# Altium footprint library AstroPix.PcbLib: 13 footprints
Each footprint in its own frame and in the unit in brackets; x right, y up, seen from the top. Pads: shape width x height; smd on the part's side, far side on the other; paste and mask are expansions set on the pad; w line width, h text height; cw(c..) or ccw(c..) is an arc to the next point about the centre after c.
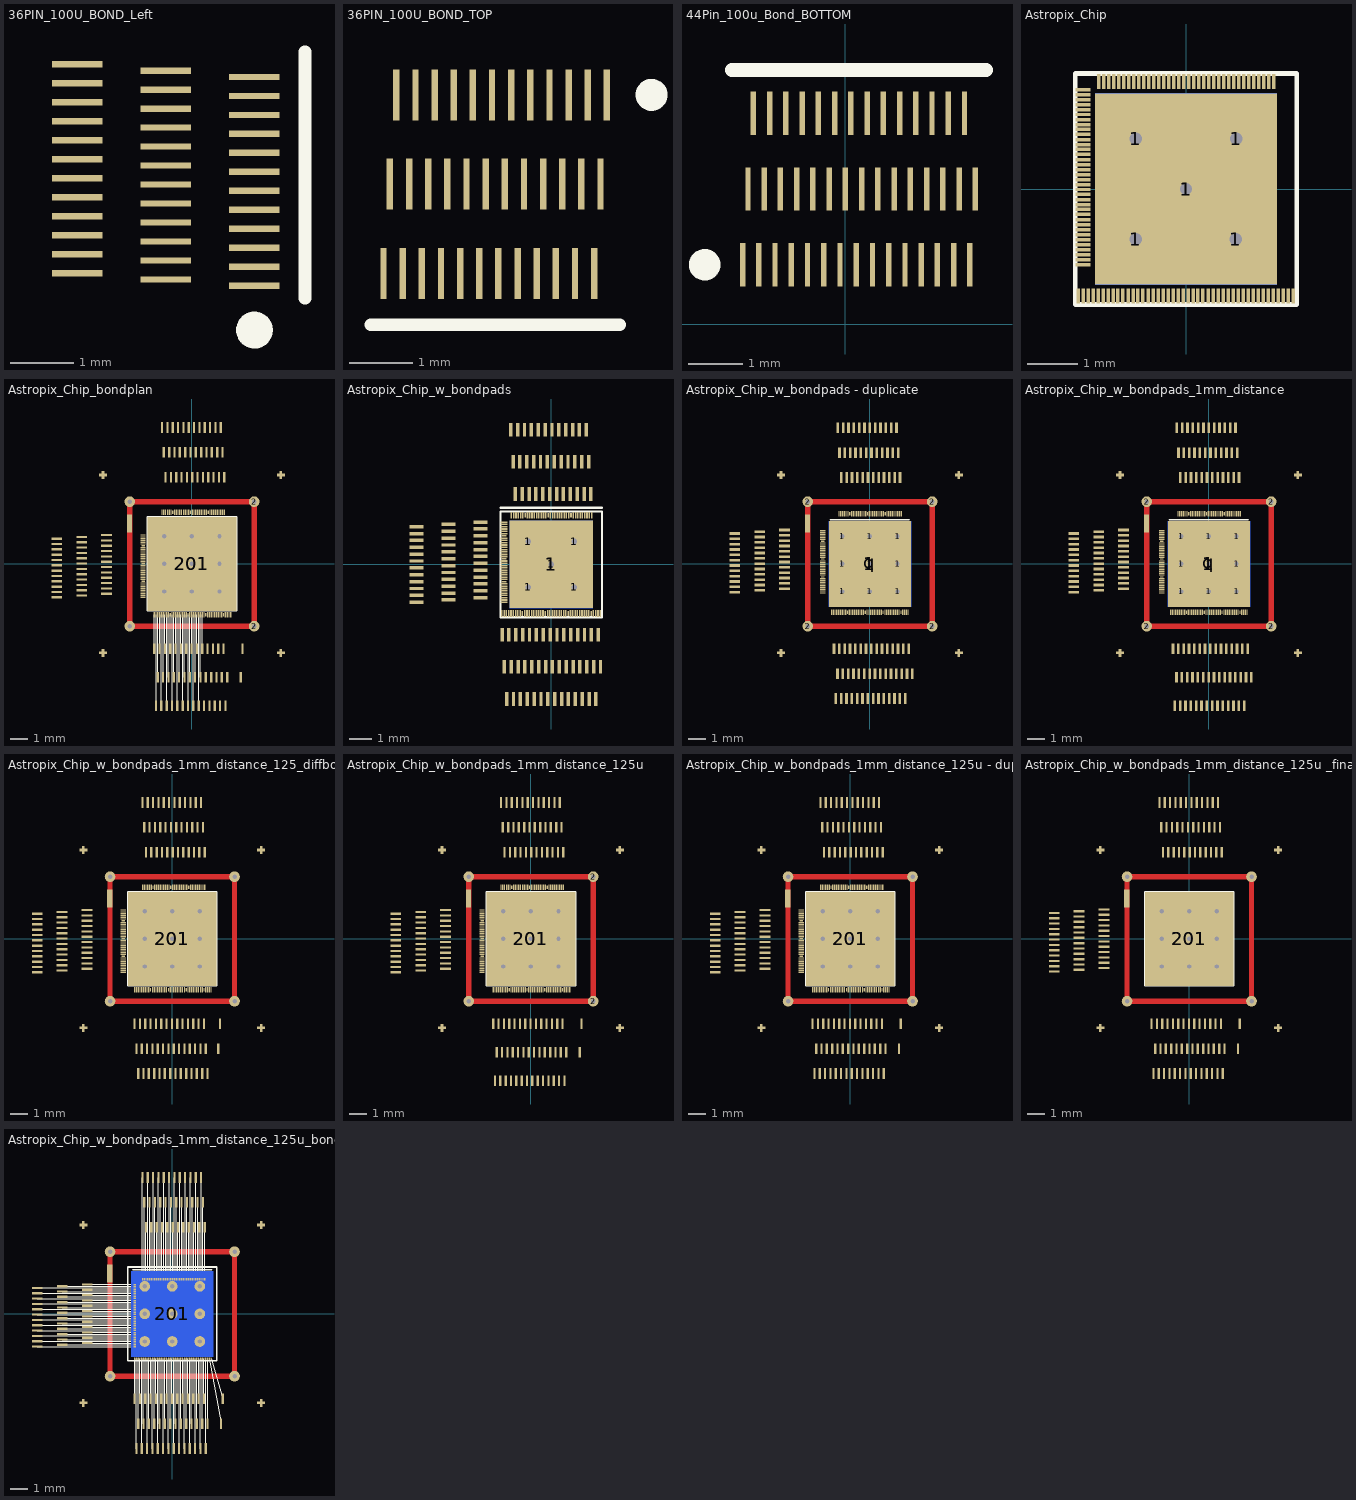
[diagram p0: the footprints below, top view; thin cyan lines are the x and y axes]

## 36PIN_100U_BOND_Left [mm]
pads (36):
  rect 0.8x0.1 smd: 1(-353.5,-207.6) 2(-354.9,-207.5) 3(-356.3,-207.4) 4(-353.5,-207.3) 5(-354.9,-207.2) 6(-356.3,-207.1) 7(-353.5,-207) 8(-354.9,-206.9) 9(-356.3,-206.8) 10(-353.5,-206.7) 11(-354.9,-206.6) 12(-356.3,-206.5) 13(-353.5,-206.4) 14(-354.9,-206.3) 15(-356.3,-206.2) 16(-353.5,-206.1) 17(-354.9,-206) 18(-356.3,-205.9) 19(-353.5,-205.8) 20(-354.9,-205.7) 21(-356.3,-205.6) 22(-353.5,-205.5) 23(-354.9,-205.4) 24(-356.3,-205.3) 25(-353.5,-205.2) 26(-354.9,-205.1) 27(-356.3,-205) 28(-353.5,-204.9) 29(-354.9,-204.8) 30(-356.3,-204.7) 31(-353.5,-204.6) 32(-354.9,-204.5) 33(-356.3,-204.4) 34(-353.5,-204.3) 35(-354.9,-204.2) 36(-356.3,-204.1)
Top Overlay:
  circle w0.3: c-353.5,-208.3 r0.141
  lines w0.2: -352.7,-207.8 -352.7,-203.9
Top Solder:
  rectangle: -357,-207.9 -352.8,-203.8

## 36PIN_100U_BOND_TOP [mm]
pads (36):
  rect 0.1x0.8 smd: 1(-354.5,-207) 2(-354.6,-208.4) 3(-354.7,-209.8) 4(-354.8,-207) 5(-354.9,-208.4) 6(-355,-209.8) 7(-355.1,-207) 8(-355.2,-208.4) 9(-355.3,-209.8) 10(-355.4,-207) 11(-355.5,-208.4) 12(-355.6,-209.8) 13(-355.7,-207) 14(-355.8,-208.4) 15(-355.9,-209.8) 16(-356,-207) 17(-356.1,-208.4) 18(-356.2,-209.8) 19(-356.3,-207) 20(-356.4,-208.4) 21(-356.5,-209.8) 22(-356.6,-207) 23(-356.7,-208.4) 24(-356.8,-209.8) 25(-356.9,-207) 26(-357,-208.4) 27(-357.1,-209.8) 28(-357.2,-207) 29(-357.3,-208.4) 30(-357.4,-209.8) 31(-357.5,-207) 32(-357.6,-208.4) 33(-357.7,-209.8) 34(-357.8,-207) 35(-357.9,-208.4) 36(-358,-209.8)
Top Overlay:
  circle w0.3: c-353.8,-207 r0.1
  lines w0.2: -358.2,-210.6 -354.3,-210.6
Top Solder:
  region: -354.2,-210.5 -354.2,-206.3 -358.3,-206.3 -358.3,-210.5

## 44Pin_100u_Bond_BOTTOM [mm]
pads (44):
  rect 0.1x0.8 smd: 1(-1.9,1.1) 2(-1.8,2.5) 3(-1.7,3.9) 4(-1.6,1.1) 5(-1.5,2.5) 6(-1.4,3.9) 7(-1.3,1.1) 8(-1.2,2.5) 9(-1.1,3.9) 10(-1,1.1) 11(-0.9,2.5) 12(-0.8,3.9) 13(-0.7,1.1) 14(-0.6,2.5) 15(-0.5,3.9) 16(-0.4,1.1) 17(-0.3,2.5) 18(-0.2,3.9) 19(-0.1,1.1) 20(0,2.5) 21(0.1,3.9) 22(0.2,1.1) 23(0.3,2.5) 24(0.4,3.9) 25(0.5,1.1) 26(0.6,2.5) 27(0.7,3.9) 28(0.8,1.1) 29(0.9,2.5) 30(1,3.9) 31(1.1,1.1) 32(1.2,2.5) 33(1.3,3.9) 34(1.4,1.1) 35(1.5,2.5) 36(1.6,3.9) 37(1.7,1.1) 38(1.8,2.5) 39(1.9,3.9) 40(2,1.1) 41(2.1,2.5) 42(2.2,3.9) 43(2.3,1.1) 44(2.4,2.5)
Top Overlay:
  circle w0.3: c-2.6,1.1 r0.141
  lines w0.254: -2.1,4.7 2.6,4.7
Top Solder:
  region: 2.7,0.4 2.7,4.6 -2.2,4.6 -2.2,0.4

## Astropix_Chip [mm]
pads (123):
  round 0.6 hole 0.25: 1(-1,-1) 1(-1,1) 1(0,0) 1(1,-1) 1(1,1)
  rect 3.63x3.82 smd: 1(0,0)
  rect 3.63x3.82 smd far side: 1(0,0)
  rect 0.07x0.3 smd mask+0.015: NC(-2.16,-2.14) NC(-2.06,-2.14) NC(-1.96,-2.14) NC(-1.86,-2.14) NC(-1.76,-2.14) NC(-1.75,2.15) NC(-1.66,-2.14) NC(-1.65,2.15) NC(-1.56,-2.14) NC(-1.55,2.15) NC(-1.46,-2.14) NC(-1.45,2.15) NC(-1.36,-2.14) NC(-1.35,2.15) NC(-1.26,-2.14) NC(-1.25,2.15) NC(-1.16,-2.14) NC(-1.15,2.15) NC(-1.06,-2.14) NC(-1.05,2.15) NC(-0.96,-2.14) NC(-0.95,2.15) NC(-0.86,-2.14) NC(-0.85,2.15) NC(-0.76,-2.14) NC(-0.75,2.15) NC(-0.66,-2.14) NC(-0.65,2.15) NC(-0.56,-2.14) NC(-0.55,2.15) NC(-0.46,-2.14) NC(-0.45,2.15) NC(-0.36,-2.14) NC(-0.35,2.15) NC(-0.26,-2.14) NC(-0.25,2.15) NC(-0.16,-2.14) NC(-0.15,2.15) NC(-0.06,-2.14) NC(-0.05,2.15) NC(0.04,-2.14) NC(0.05,2.15) NC(0.14,-2.14) NC(0.15,2.15) NC(0.24,-2.14) NC(0.25,2.15) NC(0.34,-2.14) NC(0.35,2.15) NC(0.44,-2.14) NC(0.45,2.15) NC(0.54,-2.14) NC(0.55,2.15) NC(0.64,-2.14) NC(0.65,2.15) NC(0.74,-2.14) NC(0.75,2.15) NC(0.84,-2.14) NC(0.85,2.15) NC(0.94,-2.14) NC(0.95,2.15) NC(1.04,-2.14) NC(1.05,2.15) NC(1.14,-2.14) NC(1.15,2.15) NC(1.24,-2.14) NC(1.25,2.15) NC(1.34,-2.14) NC(1.35,2.15) NC(1.44,-2.14) NC(1.45,2.15) NC(1.54,-2.14) NC(1.55,2.15) NC(1.64,-2.14) NC(1.65,2.15) NC(1.74,-2.14) NC(1.75,2.15) NC(1.84,-2.14) NC(1.94,-2.14) NC(2.04,-2.14) NC(2.14,-2.14)
  rect 0.3x0.07 smd mask+0.015: NC(-2.06,-1.51) NC(-2.06,-1.41) NC(-2.06,-1.31) NC(-2.06,-1.21) NC(-2.06,-1.11) NC(-2.06,-1.01) NC(-2.06,-0.91) NC(-2.06,-0.81) NC(-2.06,-0.71) NC(-2.06,-0.61) NC(-2.06,-0.51) NC(-2.06,-0.41) NC(-2.06,-0.31) NC(-2.06,-0.21) NC(-2.06,-0.11) NC(-2.06,-0.01) NC(-2.06,0.09) NC(-2.06,0.19) NC(-2.06,0.29) NC(-2.06,0.39) NC(-2.06,0.49) NC(-2.06,0.59) NC(-2.06,0.69) NC(-2.06,0.79) NC(-2.06,0.89) NC(-2.06,0.99) NC(-2.06,1.09) NC(-2.06,1.19) NC(-2.06,1.29) NC(-2.06,1.39) NC(-2.06,1.49) NC(-2.06,1.59) NC(-2.06,1.69) NC(-2.06,1.79) NC(-2.06,1.89) NC(-2.06,1.99)
Top Overlay:
  lines w0.1: -2.215,-2.31 -2.215,2.31 2.215,2.31 2.215,-2.31 -2.215,-2.31
Top Solder:
  rectangle: -3,-3 3,3

## Astropix_Chip_bondplan [mm]
pads (256):
  rect 0.125x0.6 smd mask+0.075: 1(-2.12,-4.77) 2(-2.02,-7.97) 3(-1.92,-6.37) 4(-1.82,-4.77) 5(-1.72,-7.97) 6(-1.62,-6.37) 7(-1.52,-4.77) 8(-1.42,-7.97) 9(-1.32,-6.37) 10(-1.22,-4.77) 11(-1.12,-7.97) 12(-1.02,-6.37) 13(-0.92,-4.77) 14(-0.82,-7.97) 15(-0.72,-6.37) 16(-0.62,-4.77) 17(-0.52,-7.97) 18(-0.42,-6.37) 19(-0.32,-4.77) 20(-0.22,-7.97) 21(-0.12,-6.37) 22(-0.02,-4.77) 23(0.08,-7.97) 24(0.18,-6.37) 25(0.28,-4.77) 26(0.38,-7.97) 27(0.48,-6.37) 28(0.58,-4.77) 29(0.68,-7.97) 30(0.78,-6.37) 31(0.88,-4.77) 32(0.98,-7.97) 33(1.08,-6.37) 34(1.18,-4.77) 35(1.28,-7.97) 36(1.38,-6.37) 37(1.48,-4.77) 38(1.58,-7.97) 39(1.68,-6.37) 40(1.78,-4.77) 41(1.88,-7.97) 42(1.98,-6.37) 43(2.84,-4.77) 44(2.74,-6.37) 81(1.82,4.87) 82(1.72,6.27) 83(1.62,7.67) 84(1.52,4.87) 85(1.42,6.27) 86(1.32,7.67) 87(1.22,4.87) 88(1.12,6.27) 89(1.02,7.67) 90(0.92,4.87) 91(0.82,6.27) 92(0.72,7.67) 93(0.62,4.87) 94(0.52,6.27) 95(0.42,7.67) 96(0.32,4.87) 97(0.22,6.27) 98(0.12,7.67) 99(0.02,4.87) 100(-0.08,6.27) 101(-0.18,7.67) 102(-0.28,4.87) 103(-0.38,6.27) 104(-0.48,7.67) 105(-0.58,4.87) 106(-0.68,6.27) 107(-0.78,7.67) 108(-0.88,4.87) 109(-0.98,6.27) 110(-1.08,7.67) 111(-1.18,4.87) 112(-1.28,6.27) 113(-1.38,7.67) 114(-1.48,4.87) 115(-1.58,6.27) 116(-1.68,7.67)
  rect 0.3x1 all layers, no hole mask+0: 2(-3.51,2.27)
  round 0.6 hole 0.25: 2(3.5,-3.5) 2(3.5,3.5) 201(-1.55,-1.55) 201(-1.55,0) 201(-1.55,1.55) 201(0,-1.55) 201(0,0) 201(0,1.55) 201(1.55,-1.55) 201(1.55,0) 201(1.55,1.55) 202(-3.5,-3.5) 202(-3.5,3.5)
  rect 0.6x0.125 smd mask+0.075: 45(-7.6,-1.88) 46(-6.2,-1.78) 47(-4.8,-1.68) 48(-7.6,-1.58) 49(-6.2,-1.48) 50(-4.8,-1.38) 51(-7.6,-1.28) 52(-6.2,-1.18) 53(-4.8,-1.08) 54(-7.6,-0.98) 55(-6.2,-0.88) 56(-4.8,-0.78) 57(-7.6,-0.68) 58(-6.2,-0.58) 59(-4.8,-0.48) 60(-7.6,-0.38) 61(-6.2,-0.28) 62(-4.8,-0.18) 63(-7.6,-0.08) 64(-6.2,0.02) 65(-4.8,0.12) 66(-7.6,0.22) 67(-6.2,0.32) 68(-4.8,0.42) 69(-7.6,0.52) 70(-6.2,0.62) 71(-4.8,0.72) 72(-7.6,0.82) 73(-6.2,0.92) 74(-4.8,1.02) 75(-7.6,1.12) 76(-6.2,1.22) 77(-4.8,1.32) 78(-7.6,1.42) 79(-6.2,1.52) 80(-4.8,1.62)
  rect 5x5.28 smd: 201(0,0)
  rect 4.63x4.82 smd far side: 201(0,0)
  rect 0.3x0.07 smd mask+0.015: NC(-2.75,-1.88) NC(-2.75,-1.78) NC(-2.75,-1.68) NC(-2.75,-1.58) NC(-2.75,-1.48) NC(-2.75,-1.38) NC(-2.75,-1.28) NC(-2.75,-1.18) NC(-2.75,-1.08) NC(-2.75,-0.88) NC(-2.75,-0.78) NC(-2.75,-0.68) NC(-2.75,-0.58) NC(-2.75,-0.48) NC(-2.75,-0.38) NC(-2.75,-0.28) NC(-2.75,-0.18) NC(-2.75,-0.08) NC(-2.75,0.12) NC(-2.75,0.22) NC(-2.75,0.32) NC(-2.75,0.42) NC(-2.75,0.52) NC(-2.75,0.62) NC(-2.75,0.72) NC(-2.75,0.82) NC(-2.75,0.92) NC(-2.75,1.12) NC(-2.75,1.22) NC(-2.75,1.32) NC(-2.75,1.42) NC(-2.75,1.52) NC(-2.75,1.62)
  rect 0.2x0.07 smd mask+0.015: NC(-2.75,-0.98) NC(-2.75,0.02) NC(-2.75,1.02)
  rect 0.07x0.3 smd mask+0.015: NC(-2.12,-2.86) NC(-2.02,-2.86) NC(-1.92,-2.86) NC(-1.82,-2.86) NC(-1.72,-2.86) NC(-1.68,2.9) NC(-1.62,-2.86) NC(-1.58,2.9) NC(-1.52,-2.86) NC(-1.48,2.9) NC(-1.42,-2.86) NC(-1.38,2.9) NC(-1.32,-2.86) NC(-1.28,2.9) NC(-1.18,2.9) NC(-1.12,-2.86) NC(-1.02,-2.86) NC(-0.98,2.9) NC(-0.92,-2.86) NC(-0.88,2.9) NC(-0.82,-2.86) NC(-0.78,2.9) NC(-0.72,-2.86) NC(-0.68,2.9) NC(-0.62,-2.86) NC(-0.58,2.9) NC(-0.52,-2.86) NC(-0.48,2.9) NC(-0.42,-2.86) NC(-0.38,2.9) NC(-0.32,-2.86) NC(-0.28,2.9) NC(-0.18,2.9) NC(-0.12,-2.86) NC(-0.02,-2.86) NC(0.02,2.9) NC(0.08,-2.86) NC(0.12,2.9) NC(0.18,-2.86) NC(0.22,2.9) NC(0.28,-2.86) NC(0.32,2.9) NC(0.38,-2.86) NC(0.42,2.9) NC(0.48,-2.86) NC(0.52,2.9) NC(0.58,-2.86) NC(0.62,2.9) NC(0.68,-2.86) NC(0.72,2.9) NC(0.82,2.9) NC(0.88,-2.86) NC(0.98,-2.86) NC(1.02,2.9) NC(1.08,-2.86) NC(1.12,2.9) NC(1.18,-2.86) NC(1.22,2.9) NC(1.28,-2.86) NC(1.32,2.9) NC(1.38,-2.86) NC(1.42,2.9) NC(1.48,-2.86) NC(1.52,2.9) NC(1.58,-2.86) NC(1.62,2.9) NC(1.68,-2.86) NC(1.72,2.9) NC(1.82,2.9) NC(1.88,-2.86) NC(1.98,-2.86) NC(2.08,-2.86) NC(2.18,-2.86)
  rect 0.07x0.2 smd mask+0.015: NC(-1.22,-2.86) NC(-1.08,2.9) NC(-0.22,-2.86) NC(-0.08,2.9) NC(0.78,-2.86) NC(0.92,2.9) NC(1.78,-2.86)
  rect 0.45x0.15 smd: p(-5,-5) p(-5,5) p(5,-5) p(5,5)
  rect 0.15x0.45 smd: p(-5,-5) p(-5,5) p(5,-5) p(5,5)
Top Layer:
  lines w0.3: -3.5,-3.5 3.5,-3.5 3.5,3.5 -3.5,3.5 -3.5,-3.5
Top Overlay:
  lines w0.02: -2.12,-4.54 -2.12,-2.86 ; -2.02,-7.97 -2.02,-2.86 ; -1.92,-6.37 -1.92,-2.86 ; -1.82,-4.77 -1.82,-2.86 ; -1.72,-7.97 -1.72,-2.86 ; -1.62,-6.37 -1.62,-2.86 ; -1.52,-4.77 -1.52,-2.86 ; -1.42,-7.97 -1.42,-2.86 ; -1.32,-6.37 -1.32,-2.86 ; -1.22,-4.77 -1.22,-2.86 ; -1.12,-7.97 -1.12,-2.86 ; -1.02,-6.37 -1.02,-2.86 ; -0.92,-4.77 -0.92,-2.86 ; -0.82,-7.97 -0.82,-2.86 ; -0.72,-6.37 -0.72,-2.86 ; -0.62,-4.77 -0.62,-2.86 ; -0.52,-7.97 -0.52,-2.86 ; -0.42,-6.37 -0.42,-2.86 ; -0.32,-4.77 -0.32,-2.86 ; -0.22,-7.97 -0.22,-2.86 ; -0.12,-6.37 -0.12,-2.86 ; -0.02,-4.77 -0.02,-2.86 ; 0.08,-7.97 0.08,-2.86 ; 0.18,-6.37 0.18,-2.86 ; 0.28,-4.77 0.28,-2.86 ; 0.38,-7.97 0.38,-2.86 ; 0.48,-6.37 0.48,-2.86 ; 0.58,-4.77 0.58,-2.86 ; -0.92,-2.86 -0.92,-2.86 ; -0.62,-2.86 -0.62,-2.86
  lines w0.1: -2.215,2.48 2.215,2.48 ; -2.5,-2.64 2.5,-2.64 2.5,2.64 -2.5,2.64 -2.5,-2.64
Top Solder:
  rectangle: -8.62,-8.44 -3.52,8.43
  rectangle: -8.62,-8.44 6.01,-3.58
  rectangle: -8.59,3.35 6.04,8.43
  rectangle: 3.5,-3.99 6.01,3.5

## Astropix_Chip_w_bondpads [mm]
pads (239):
  round 0.6 hole 0.25: 1(-1,-1) 1(-1,1) 1(0,0) 1(1,-1) 1(1,1)
  rect 3.63x3.82 smd: 1(0,0)
  rect 3.63x3.82 smd far side: 1(0,0)
  rect 0.6x0.15 smd mask+0.075: 6(-5.89,-1.65) 6(-5.89,-1.35) 6(-5.89,-1.05) 6(-5.89,-0.75) 6(-5.89,-0.45) 6(-5.89,-0.15) 6(-5.89,0.15) 6(-5.89,0.45) 6(-5.89,0.75) 6(-5.89,1.05) 6(-5.89,1.35) 6(-5.89,1.65) 6(-4.49,-1.55) 6(-4.49,-1.25) 6(-4.49,-0.95) 6(-4.49,-0.65) 6(-4.49,-0.35) 6(-4.49,-0.05) 6(-4.49,0.25) 6(-4.49,0.55) 6(-4.49,0.85) 6(-4.49,1.15) 6(-4.49,1.45) 6(-4.49,1.75) 6(-3.09,-1.45) 6(-3.09,-1.15) 6(-3.09,-0.85) 6(-3.09,-0.55) 6(-3.09,-0.25) 6(-3.09,0.05) 6(-3.09,0.35) 6(-3.09,0.65) 6(-3.09,0.95) 6(-3.09,1.25) 6(-3.09,1.55) 6(-3.09,1.85)
  rect 0.15x0.6 smd mask+0.075: 6(-2.15,-3.07) 6(-2.05,-4.47) 6(-1.95,-5.87) 6(-1.85,-3.07) 6(-1.77,5.88) 6(-1.75,-4.47) 6(-1.67,4.48) 6(-1.65,-5.87) 6(-1.57,3.08) 6(-1.55,-3.07) 6(-1.47,5.88) 6(-1.45,-4.47) 6(-1.37,4.48) 6(-1.35,-5.87) 6(-1.27,3.08) 6(-1.25,-3.07) 6(-1.17,5.88) 6(-1.15,-4.47) 6(-1.07,4.48) 6(-1.05,-5.87) 6(-0.97,3.08) 6(-0.95,-3.07) 6(-0.87,5.88) 6(-0.85,-4.47) 6(-0.77,4.48) 6(-0.75,-5.87) 6(-0.67,3.08) 6(-0.65,-3.07) 6(-0.57,5.88) 6(-0.55,-4.47) 6(-0.47,4.48) 6(-0.45,-5.87) 6(-0.37,3.08) 6(-0.35,-3.07) 6(-0.27,5.88) 6(-0.25,-4.47) 6(-0.17,4.48) 6(-0.15,-5.87) 6(-0.07,3.08) 6(-0.05,-3.07) 6(0.03,5.88) 6(0.05,-4.47) 6(0.13,4.48) 6(0.15,-5.87) 6(0.23,3.08) 6(0.25,-3.07) 6(0.33,5.88) 6(0.35,-4.47) 6(0.43,4.48) 6(0.45,-5.87) 6(0.53,3.08) 6(0.55,-3.07) 6(0.63,5.88) 6(0.65,-4.47) 6(0.73,4.48) 6(0.75,-5.87) 6(0.83,3.08) 6(0.85,-3.07) 6(0.93,5.88) 6(0.95,-4.47) 6(1.03,4.48) 6(1.05,-5.87) 6(1.13,3.08) 6(1.15,-3.07) 6(1.23,5.88) 6(1.25,-4.47) 6(1.33,4.48) 6(1.35,-5.87) 6(1.43,3.08) 6(1.45,-3.07) 6(1.53,5.88) 6(1.55,-4.47) 6(1.63,4.48) 6(1.65,-5.87) 6(1.73,3.08) 6(1.75,-3.07) 6(1.85,-4.47) 6(1.95,-5.87) 6(2.05,-3.07) 6(2.15,-4.47)
  rect 0.07x0.3 smd mask+0.015: NC(-2.16,-2.14) NC(-2.06,-2.14) NC(-1.96,-2.14) NC(-1.86,-2.14) NC(-1.76,-2.14) NC(-1.74,2.15) NC(-1.66,-2.14) NC(-1.64,2.15) NC(-1.56,-2.14) NC(-1.54,2.15) NC(-1.46,-2.14) NC(-1.44,2.15) NC(-1.36,-2.14) NC(-1.34,2.15) NC(-1.24,2.15) NC(-1.16,-2.14) NC(-1.06,-2.14) NC(-1.04,2.15) NC(-0.96,-2.14) NC(-0.94,2.15) NC(-0.86,-2.14) NC(-0.84,2.15) NC(-0.76,-2.14) NC(-0.74,2.15) NC(-0.66,-2.14) NC(-0.64,2.15) NC(-0.56,-2.14) NC(-0.54,2.15) NC(-0.46,-2.14) NC(-0.44,2.15) NC(-0.36,-2.14) NC(-0.34,2.15) NC(-0.24,2.15) NC(-0.16,-2.14) NC(-0.06,-2.14) NC(-0.04,2.15) NC(0.04,-2.14) NC(0.06,2.15) NC(0.14,-2.14) NC(0.16,2.15) NC(0.24,-2.14) NC(0.26,2.15) NC(0.34,-2.14) NC(0.36,2.15) NC(0.44,-2.14) NC(0.46,2.15) NC(0.54,-2.14) NC(0.56,2.15) NC(0.64,-2.14) NC(0.66,2.15) NC(0.76,2.15) NC(0.84,-2.14) NC(0.94,-2.14) NC(0.96,2.15) NC(1.04,-2.14) NC(1.06,2.15) NC(1.14,-2.14) NC(1.16,2.15) NC(1.24,-2.14) NC(1.26,2.15) NC(1.34,-2.14) NC(1.36,2.15) NC(1.44,-2.14) NC(1.46,2.15) NC(1.54,-2.14) NC(1.56,2.15) NC(1.64,-2.14) NC(1.66,2.15) NC(1.76,2.15) NC(1.84,-2.14) NC(1.94,-2.14) NC(2.04,-2.14) NC(2.14,-2.14)
  rect 0.3x0.07 smd mask+0.015: NC(-2.064,-1.651) NC(-2.064,-1.551) NC(-2.064,-1.451) NC(-2.064,-1.351) NC(-2.064,-1.251) NC(-2.064,-1.151) NC(-2.064,-1.051) NC(-2.064,-0.951) NC(-2.064,-0.851) NC(-2.064,-0.651) NC(-2.064,-0.551) NC(-2.064,-0.451) NC(-2.064,-0.351) NC(-2.064,-0.251) NC(-2.064,-0.151) NC(-2.064,-0.051) NC(-2.064,0.049) NC(-2.064,0.149) NC(-2.064,0.349) NC(-2.064,0.449) NC(-2.064,0.549) NC(-2.064,0.649) NC(-2.064,0.749) NC(-2.064,0.849) NC(-2.064,0.949) NC(-2.064,1.049) NC(-2.064,1.149) NC(-2.064,1.349) NC(-2.064,1.449) NC(-2.064,1.549) NC(-2.064,1.649) NC(-2.064,1.749) NC(-2.064,1.849)
  rect 0.2x0.07 smd mask+0.015: NC(-2.064,-0.751) NC(-2.064,0.249) NC(-2.064,1.249)
  rect 0.07x0.2 smd mask+0.015: NC(-1.26,-2.14) NC(-1.14,2.15) NC(-0.26,-2.14) NC(-0.14,2.15) NC(0.74,-2.14) NC(0.86,2.15) NC(1.74,-2.14)
Top Overlay:
  lines w0.1: -2.215,2.48 2.215,2.48 ; -2.215,-2.31 2.215,-2.31 2.215,2.31 -2.215,2.31 -2.215,-2.31
Top Solder:
  rectangle: -6.78,-6.53 3,6.57

## Astropix_Chip_w_bondpads - duplicate [mm]
pads (256):
  rect 0.15x0.6 smd mask+0.075: 1(-2.02,-4.77) 2(-1.92,-7.57) 3(-1.82,-6.17) 4(-1.72,-4.77) 5(-1.62,-7.57) 6(-1.81,7.66) 6(-1.71,6.26) 6(-1.61,4.86) 6(-1.52,-6.17) 6(-1.51,7.66) 6(-1.41,6.26) 6(-1.31,4.86) 6(-1.21,7.66) 6(-1.11,6.26) 6(-1.01,4.86) 6(-0.91,7.66) 6(-0.81,6.26) 6(-0.71,4.86) 6(-0.61,7.66) 6(-0.51,6.26) 6(-0.41,4.86) 6(-0.31,7.66) 6(-0.21,6.26) 6(-0.11,4.86) 6(-0.01,7.66) 6(0.09,6.26) 6(0.19,4.86) 6(0.29,7.66) 6(0.39,6.26) 6(0.49,4.86) 6(0.59,7.66) 6(0.69,6.26) 6(0.79,4.86) 6(0.89,7.66) 6(0.99,6.26) 6(1.09,4.86) 6(1.19,7.66) 6(1.29,6.26) 6(1.39,4.86) 6(1.49,7.66) 6(1.59,6.26) 6(1.69,4.86) 6(2.38,-6.17) 7(-1.42,-4.77) 8(-1.32,-7.57) 9(-1.22,-6.17) 10(-1.12,-4.77) 11(-1.02,-7.57) 12(-0.92,-6.17) 13(-0.82,-4.77) 14(-0.72,-7.57) 15(-0.62,-6.17) 16(-0.52,-4.77) 17(-0.42,-7.57) 18(-0.32,-6.17) 19(-0.22,-4.77) 20(-0.12,-7.57) 21(-0.02,-6.17) 22(0.08,-4.77) 23(0.18,-7.57) 24(0.28,-6.17) 25(0.38,-4.77) 26(0.48,-7.57) 27(0.58,-6.17) 28(0.68,-4.77) 29(0.78,-7.57) 30(0.88,-6.17) 31(0.98,-4.77) 32(1.08,-7.57) 33(1.18,-6.17) 34(1.28,-4.77) 35(1.38,-7.57) 36(1.48,-6.17) 37(1.58,-4.77) 38(1.68,-7.57) 39(1.78,-6.17) 40(1.88,-4.77) 41(1.98,-7.57) 42(2.08,-6.17) 43(2.18,-4.77)
  round 0.6 hole 0.25: 1(-1.55,-1.55) 1(-1.55,0) 1(-1.55,1.55) 1(0,-1.55) 1(0,0) 1(0,1.55) 1(1.55,-1.55) 1(1.55,0) 1(1.55,1.55) 2(-3.5,-3.5) 2(-3.5,3.5) 2(3.5,-3.5) 2(3.5,3.5)
  rect 4.63x4.82 smd far side: 1(0,0)
  rect 0.3x1 all layers, no hole mask+0: 2(-3.51,2.27)
  rect 0.6x0.15 smd mask+0.075: 6(-7.6,-1.59) 6(-7.6,-1.29) 6(-7.6,-0.99) 6(-7.6,-0.69) 6(-7.6,-0.39) 6(-7.6,-0.09) 6(-7.6,0.21) 6(-7.6,0.51) 6(-7.6,0.81) 6(-7.6,1.11) 6(-7.6,1.41) 6(-7.6,1.71) 6(-6.2,-1.49) 6(-6.2,-1.19) 6(-6.2,-0.89) 6(-6.2,-0.59) 6(-6.2,-0.29) 6(-6.2,0.01) 6(-6.2,0.31) 6(-6.2,0.61) 6(-6.2,0.91) 6(-6.2,1.21) 6(-6.2,1.51) 6(-6.2,1.81) 6(-4.8,-1.39) 6(-4.8,-1.09) 6(-4.8,-0.79) 6(-4.8,-0.49) 6(-4.8,-0.19) 6(-4.8,0.11) 6(-4.8,0.41) 6(-4.8,0.71) 6(-4.8,1.01) 6(-4.8,1.31) 6(-4.8,1.61) 6(-4.8,1.91)
  rect 0.3x0.07 smd mask+0.015: NC(-2.66,-1.63) NC(-2.66,-1.53) NC(-2.66,-1.43) NC(-2.66,-1.33) NC(-2.66,-1.23) NC(-2.66,-1.13) NC(-2.66,-1.03) NC(-2.66,-0.93) NC(-2.66,-0.83) NC(-2.66,-0.63) NC(-2.66,-0.53) NC(-2.66,-0.43) NC(-2.66,-0.33) NC(-2.66,-0.23) NC(-2.66,-0.13) NC(-2.66,-0.03) NC(-2.66,0.07) NC(-2.66,0.17) NC(-2.66,0.37) NC(-2.66,0.47) NC(-2.66,0.57) NC(-2.66,0.67) NC(-2.66,0.77) NC(-2.66,0.87) NC(-2.66,0.97) NC(-2.66,1.07) NC(-2.66,1.17) NC(-2.66,1.37) NC(-2.66,1.47) NC(-2.66,1.57) NC(-2.66,1.67) NC(-2.66,1.77) NC(-2.66,1.87)
  rect 0.2x0.07 smd mask+0.015: NC(-2.66,-0.73) NC(-2.66,0.27) NC(-2.66,1.27)
  rect 0.07x0.3 smd mask+0.015: NC(-2.16,-2.72) NC(-2.06,-2.72) NC(-1.96,-2.72) NC(-1.86,-2.72) NC(-1.76,-2.72) NC(-1.74,2.82) NC(-1.66,-2.72) NC(-1.64,2.82) NC(-1.56,-2.72) NC(-1.54,2.82) NC(-1.46,-2.72) NC(-1.44,2.82) NC(-1.36,-2.72) NC(-1.34,2.82) NC(-1.24,2.82) NC(-1.16,-2.72) NC(-1.06,-2.72) NC(-1.04,2.82) NC(-0.96,-2.72) NC(-0.94,2.82) NC(-0.86,-2.72) NC(-0.84,2.82) NC(-0.76,-2.72) NC(-0.74,2.82) NC(-0.66,-2.72) NC(-0.64,2.82) NC(-0.56,-2.72) NC(-0.54,2.82) NC(-0.46,-2.72) NC(-0.44,2.82) NC(-0.36,-2.72) NC(-0.34,2.82) NC(-0.24,2.82) NC(-0.16,-2.72) NC(-0.06,-2.72) NC(-0.04,2.82) NC(0.04,-2.72) NC(0.06,2.82) NC(0.14,-2.72) NC(0.16,2.82) NC(0.24,-2.72) NC(0.26,2.82) NC(0.34,-2.72) NC(0.36,2.82) NC(0.44,-2.72) NC(0.46,2.82) NC(0.54,-2.72) NC(0.56,2.82) NC(0.64,-2.72) NC(0.66,2.82) NC(0.76,2.82) NC(0.84,-2.72) NC(0.94,-2.72) NC(0.96,2.82) NC(1.04,-2.72) NC(1.06,2.82) NC(1.14,-2.72) NC(1.16,2.82) NC(1.24,-2.72) NC(1.26,2.82) NC(1.34,-2.72) NC(1.36,2.82) NC(1.44,-2.72) NC(1.46,2.82) NC(1.54,-2.72) NC(1.56,2.82) NC(1.64,-2.72) NC(1.66,2.82) NC(1.76,2.82) NC(1.84,-2.72) NC(1.94,-2.72) NC(2.04,-2.72) NC(2.14,-2.72)
  rect 0.07x0.2 smd mask+0.015: NC(-1.26,-2.72) NC(-1.14,2.82) NC(-0.26,-2.72) NC(-0.14,2.82) NC(0.74,-2.72) NC(0.86,2.82) NC(1.74,-2.72)
  rect 0.45x0.15 smd: p(-5,-5) p(-5,5) p(5,-5) p(5,5)
  rect 0.15x0.45 smd: p(-5,-5) p(-5,5) p(5,-5) p(5,5)
  rect 4.63x4.82 smd: q(0,0)
Top Layer:
  lines w0.3: -3.5,-3.5 3.5,-3.5 3.5,3.5 -3.5,3.5 -3.5,-3.5
Top Overlay:
  lines w0.1: -2.215,2.48 2.215,2.48 ; -2.215,-2.31 -2.215,2.31 2.215,2.31 2.215,-2.31 -2.215,-2.31
Top Solder:
  rectangle: -8.62,-8.44 -3.52,8.43
  rectangle: -8.62,-8.44 6.01,-3.58
  rectangle: -8.59,3.35 6.04,8.43
  rectangle: 3.5,-3.99 6.01,3.5

## Astropix_Chip_w_bondpads_1mm_distance [mm]
pads (256):
  rect 0.15x0.6 smd mask+0.075: 1(-2.02,-4.77) 2(-1.92,-7.97) 3(-1.82,-6.37) 4(-1.72,-4.77) 5(-1.62,-7.97) 6(-1.81,7.66) 6(-1.71,6.26) 6(-1.61,4.86) 6(-1.52,-6.37) 6(-1.51,7.66) 6(-1.41,6.26) 6(-1.31,4.86) 6(-1.21,7.66) 6(-1.11,6.26) 6(-1.01,4.86) 6(-0.91,7.66) 6(-0.81,6.26) 6(-0.71,4.86) 6(-0.61,7.66) 6(-0.51,6.26) 6(-0.41,4.86) 6(-0.31,7.66) 6(-0.21,6.26) 6(-0.11,4.86) 6(-0.01,7.66) 6(0.09,6.26) 6(0.19,4.86) 6(0.29,7.66) 6(0.39,6.26) 6(0.49,4.86) 6(0.59,7.66) 6(0.69,6.26) 6(0.79,4.86) 6(0.89,7.66) 6(0.99,6.26) 6(1.09,4.86) 6(1.19,7.66) 6(1.29,6.26) 6(1.39,4.86) 6(1.49,7.66) 6(1.59,6.26) 6(1.69,4.86) 6(2.38,-6.37) 7(-1.42,-4.77) 8(-1.32,-7.97) 9(-1.22,-6.37) 10(-1.12,-4.77) 11(-1.02,-7.97) 12(-0.92,-6.37) 13(-0.82,-4.77) 14(-0.72,-7.97) 15(-0.62,-6.37) 16(-0.52,-4.77) 17(-0.42,-7.97) 18(-0.32,-6.37) 19(-0.22,-4.77) 20(-0.12,-7.97) 21(-0.02,-6.37) 22(0.08,-4.77) 23(0.18,-7.97) 24(0.28,-6.37) 25(0.38,-4.77) 26(0.48,-7.97) 27(0.58,-6.37) 28(0.68,-4.77) 29(0.78,-7.97) 30(0.88,-6.37) 31(0.98,-4.77) 32(1.08,-7.97) 33(1.18,-6.37) 34(1.28,-4.77) 35(1.38,-7.97) 36(1.48,-6.37) 37(1.58,-4.77) 38(1.68,-7.97) 39(1.78,-6.37) 40(1.88,-4.77) 41(1.98,-7.97) 42(2.08,-6.37) 43(2.18,-4.77)
  round 0.6 hole 0.25: 1(-1.55,-1.55) 1(-1.55,0) 1(-1.55,1.55) 1(0,-1.55) 1(0,0) 1(0,1.55) 1(1.55,-1.55) 1(1.55,0) 1(1.55,1.55) 2(-3.5,-3.5) 2(-3.5,3.5) 2(3.5,-3.5) 2(3.5,3.5)
  rect 4.63x4.82 smd far side: 1(0,0)
  rect 0.3x1 all layers, no hole mask+0: 2(-3.51,2.27)
  rect 0.6x0.15 smd mask+0.075: 6(-7.6,-1.59) 6(-7.6,-1.29) 6(-7.6,-0.99) 6(-7.6,-0.69) 6(-7.6,-0.39) 6(-7.6,-0.09) 6(-7.6,0.21) 6(-7.6,0.51) 6(-7.6,0.81) 6(-7.6,1.11) 6(-7.6,1.41) 6(-7.6,1.71) 6(-6.2,-1.49) 6(-6.2,-1.19) 6(-6.2,-0.89) 6(-6.2,-0.59) 6(-6.2,-0.29) 6(-6.2,0.01) 6(-6.2,0.31) 6(-6.2,0.61) 6(-6.2,0.91) 6(-6.2,1.21) 6(-6.2,1.51) 6(-6.2,1.81) 6(-4.8,-1.39) 6(-4.8,-1.09) 6(-4.8,-0.79) 6(-4.8,-0.49) 6(-4.8,-0.19) 6(-4.8,0.11) 6(-4.8,0.41) 6(-4.8,0.71) 6(-4.8,1.01) 6(-4.8,1.31) 6(-4.8,1.61) 6(-4.8,1.91)
  rect 0.3x0.07 smd mask+0.015: NC(-2.66,-1.63) NC(-2.66,-1.53) NC(-2.66,-1.43) NC(-2.66,-1.33) NC(-2.66,-1.23) NC(-2.66,-1.13) NC(-2.66,-1.03) NC(-2.66,-0.93) NC(-2.66,-0.83) NC(-2.66,-0.63) NC(-2.66,-0.53) NC(-2.66,-0.43) NC(-2.66,-0.33) NC(-2.66,-0.23) NC(-2.66,-0.13) NC(-2.66,-0.03) NC(-2.66,0.07) NC(-2.66,0.17) NC(-2.66,0.37) NC(-2.66,0.47) NC(-2.66,0.57) NC(-2.66,0.67) NC(-2.66,0.77) NC(-2.66,0.87) NC(-2.66,0.97) NC(-2.66,1.07) NC(-2.66,1.17) NC(-2.66,1.37) NC(-2.66,1.47) NC(-2.66,1.57) NC(-2.66,1.67) NC(-2.66,1.77) NC(-2.66,1.87)
  rect 0.2x0.07 smd mask+0.015: NC(-2.66,-0.73) NC(-2.66,0.27) NC(-2.66,1.27)
  rect 0.07x0.3 smd mask+0.015: NC(-2.16,-2.72) NC(-2.06,-2.72) NC(-1.96,-2.72) NC(-1.86,-2.72) NC(-1.76,-2.72) NC(-1.74,2.82) NC(-1.66,-2.72) NC(-1.64,2.82) NC(-1.56,-2.72) NC(-1.54,2.82) NC(-1.46,-2.72) NC(-1.44,2.82) NC(-1.36,-2.72) NC(-1.34,2.82) NC(-1.24,2.82) NC(-1.16,-2.72) NC(-1.06,-2.72) NC(-1.04,2.82) NC(-0.96,-2.72) NC(-0.94,2.82) NC(-0.86,-2.72) NC(-0.84,2.82) NC(-0.76,-2.72) NC(-0.74,2.82) NC(-0.66,-2.72) NC(-0.64,2.82) NC(-0.56,-2.72) NC(-0.54,2.82) NC(-0.46,-2.72) NC(-0.44,2.82) NC(-0.36,-2.72) NC(-0.34,2.82) NC(-0.24,2.82) NC(-0.16,-2.72) NC(-0.06,-2.72) NC(-0.04,2.82) NC(0.04,-2.72) NC(0.06,2.82) NC(0.14,-2.72) NC(0.16,2.82) NC(0.24,-2.72) NC(0.26,2.82) NC(0.34,-2.72) NC(0.36,2.82) NC(0.44,-2.72) NC(0.46,2.82) NC(0.54,-2.72) NC(0.56,2.82) NC(0.64,-2.72) NC(0.66,2.82) NC(0.76,2.82) NC(0.84,-2.72) NC(0.94,-2.72) NC(0.96,2.82) NC(1.04,-2.72) NC(1.06,2.82) NC(1.14,-2.72) NC(1.16,2.82) NC(1.24,-2.72) NC(1.26,2.82) NC(1.34,-2.72) NC(1.36,2.82) NC(1.44,-2.72) NC(1.46,2.82) NC(1.54,-2.72) NC(1.56,2.82) NC(1.64,-2.72) NC(1.66,2.82) NC(1.76,2.82) NC(1.84,-2.72) NC(1.94,-2.72) NC(2.04,-2.72) NC(2.14,-2.72)
  rect 0.07x0.2 smd mask+0.015: NC(-1.26,-2.72) NC(-1.14,2.82) NC(-0.26,-2.72) NC(-0.14,2.82) NC(0.74,-2.72) NC(0.86,2.82) NC(1.74,-2.72)
  rect 0.45x0.15 smd: p(-5,-5) p(-5,5) p(5,-5) p(5,5)
  rect 0.15x0.45 smd: p(-5,-5) p(-5,5) p(5,-5) p(5,5)
  rect 4.63x4.82 smd: q(0,0)
Top Layer:
  lines w0.3: -3.5,-3.5 3.5,-3.5 3.5,3.5 -3.5,3.5 -3.5,-3.5
Top Overlay:
  lines w0.1: -2.215,2.48 2.215,2.48 ; -2.215,-2.31 -2.215,2.31 2.215,2.31 2.215,-2.31 -2.215,-2.31
Top Solder:
  rectangle: -8.62,-8.44 -3.52,8.43
  rectangle: -8.62,-8.44 6.01,-3.58
  rectangle: -8.59,3.35 6.04,8.43
  rectangle: 3.5,-3.99 6.01,3.5

## Astropix_Chip_w_bondpads_1mm_distance_125_diffbottom [mm]
pads (256):
  rect 0.125x0.6 smd mask+0.075: 1(-2.12,-4.77) 2(-2.02,-6.17) 3(-1.92,-7.57) 4(-1.82,-4.77) 5(-1.72,-6.17) 6(-1.62,-7.57) 7(-1.52,-4.77) 8(-1.42,-6.17) 9(-1.32,-7.57) 10(-1.22,-4.77) 11(-1.12,-6.17) 12(-1.02,-7.57) 13(-0.92,-4.77) 14(-0.82,-6.17) 15(-0.72,-7.57) 16(-0.62,-4.77) 17(-0.52,-6.17) 18(-0.42,-7.57) 19(-0.32,-4.77) 20(-0.22,-6.17) 21(-0.12,-7.57) 22(-0.02,-4.77) 23(0.08,-6.17) 24(0.18,-7.57) 25(0.28,-4.77) 26(0.38,-6.17) 27(0.48,-7.57) 28(0.58,-4.77) 29(0.68,-6.17) 30(0.78,-7.57) 31(0.88,-4.77) 32(0.98,-6.17) 33(1.08,-7.57) 34(1.18,-4.77) 35(1.28,-6.17) 36(1.38,-7.57) 37(1.48,-4.77) 38(1.58,-6.17) 39(1.68,-7.57) 40(1.78,-4.77) 41(1.88,-6.17) 42(1.98,-7.57) 43(2.59,-6.17) 44(2.69,-4.77) 81(1.82,4.87) 82(1.72,6.27) 83(1.62,7.67) 84(1.52,4.87) 85(1.42,6.27) 86(1.32,7.67) 87(1.22,4.87) 88(1.12,6.27) 89(1.02,7.67) 90(0.92,4.87) 91(0.82,6.27) 92(0.72,7.67) 93(0.62,4.87) 94(0.52,6.27) 95(0.42,7.67) 96(0.32,4.87) 97(0.22,6.27) 98(0.12,7.67) 99(0.02,4.87) 100(-0.08,6.27) 101(-0.18,7.67) 102(-0.28,4.87) 103(-0.38,6.27) 104(-0.48,7.67) 105(-0.58,4.87) 106(-0.68,6.27) 107(-0.78,7.67) 108(-0.88,4.87) 109(-0.98,6.27) 110(-1.08,7.67) 111(-1.18,4.87) 112(-1.28,6.27) 113(-1.38,7.67) 114(-1.48,4.87) 115(-1.58,6.27) 116(-1.68,7.67)
  rect 0.3x1 all layers, no hole mask+0: 2(-3.51,2.27)
  rect 0.6x0.125 smd mask+0.075: 45(-7.6,-1.88) 46(-6.2,-1.78) 47(-4.8,-1.68) 48(-7.6,-1.58) 49(-6.2,-1.48) 50(-4.8,-1.38) 51(-7.6,-1.28) 52(-6.2,-1.18) 53(-4.8,-1.08) 54(-7.6,-0.98) 55(-6.2,-0.88) 56(-4.8,-0.78) 57(-7.6,-0.68) 58(-6.2,-0.58) 59(-4.8,-0.48) 60(-7.6,-0.38) 61(-6.2,-0.28) 62(-4.8,-0.18) 63(-7.6,-0.08) 64(-6.2,0.02) 65(-4.8,0.12) 66(-7.6,0.22) 67(-6.2,0.32) 68(-4.8,0.42) 69(-7.6,0.52) 70(-6.2,0.62) 71(-4.8,0.72) 72(-7.6,0.82) 73(-6.2,0.92) 74(-4.8,1.02) 75(-7.6,1.12) 76(-6.2,1.22) 77(-4.8,1.32) 78(-7.6,1.42) 79(-6.2,1.52) 80(-4.8,1.62)
  round 0.6 hole 0.25: 201(-1.55,-1.55) 201(-1.55,0) 201(-1.55,1.55) 201(0,-1.55) 201(0,0) 201(0,1.55) 201(1.55,-1.55) 201(1.55,0) 201(1.55,1.55) 202(-3.5,-3.5) 202(-3.5,3.5) 202(3.5,-3.5) 202(3.5,3.5)
  rect 5x5.28 smd: 201(0,0)
  rect 4.63x4.82 smd far side: 201(0,0)
  rect 0.3x0.07 smd mask+0.015: NC(-2.75,-1.88) NC(-2.75,-1.78) NC(-2.75,-1.68) NC(-2.75,-1.58) NC(-2.75,-1.48) NC(-2.75,-1.38) NC(-2.75,-1.28) NC(-2.75,-1.18) NC(-2.75,-1.08) NC(-2.75,-0.88) NC(-2.75,-0.78) NC(-2.75,-0.68) NC(-2.75,-0.58) NC(-2.75,-0.48) NC(-2.75,-0.38) NC(-2.75,-0.28) NC(-2.75,-0.18) NC(-2.75,-0.08) NC(-2.75,0.12) NC(-2.75,0.22) NC(-2.75,0.32) NC(-2.75,0.42) NC(-2.75,0.52) NC(-2.75,0.62) NC(-2.75,0.72) NC(-2.75,0.82) NC(-2.75,0.92) NC(-2.75,1.12) NC(-2.75,1.22) NC(-2.75,1.32) NC(-2.75,1.42) NC(-2.75,1.52) NC(-2.75,1.62)
  rect 0.2x0.07 smd mask+0.015: NC(-2.75,-0.98) NC(-2.75,0.02) NC(-2.75,1.02)
  rect 0.07x0.3 smd mask+0.015: NC(-2.12,-2.86) NC(-2.02,-2.86) NC(-1.92,-2.86) NC(-1.82,-2.86) NC(-1.72,-2.86) NC(-1.68,2.9) NC(-1.62,-2.86) NC(-1.58,2.9) NC(-1.52,-2.86) NC(-1.48,2.9) NC(-1.42,-2.86) NC(-1.38,2.9) NC(-1.32,-2.86) NC(-1.28,2.9) NC(-1.18,2.9) NC(-1.12,-2.86) NC(-1.02,-2.86) NC(-0.98,2.9) NC(-0.92,-2.86) NC(-0.88,2.9) NC(-0.82,-2.86) NC(-0.78,2.9) NC(-0.72,-2.86) NC(-0.68,2.9) NC(-0.62,-2.86) NC(-0.58,2.9) NC(-0.52,-2.86) NC(-0.48,2.9) NC(-0.42,-2.86) NC(-0.38,2.9) NC(-0.32,-2.86) NC(-0.28,2.9) NC(-0.18,2.9) NC(-0.12,-2.86) NC(-0.02,-2.86) NC(0.02,2.9) NC(0.08,-2.86) NC(0.12,2.9) NC(0.18,-2.86) NC(0.22,2.9) NC(0.28,-2.86) NC(0.32,2.9) NC(0.38,-2.86) NC(0.42,2.9) NC(0.48,-2.86) NC(0.52,2.9) NC(0.58,-2.86) NC(0.62,2.9) NC(0.68,-2.86) NC(0.72,2.9) NC(0.82,2.9) NC(0.88,-2.86) NC(0.98,-2.86) NC(1.02,2.9) NC(1.08,-2.86) NC(1.12,2.9) NC(1.18,-2.86) NC(1.22,2.9) NC(1.28,-2.86) NC(1.32,2.9) NC(1.38,-2.86) NC(1.42,2.9) NC(1.48,-2.86) NC(1.52,2.9) NC(1.58,-2.86) NC(1.62,2.9) NC(1.68,-2.86) NC(1.72,2.9) NC(1.82,2.9) NC(1.88,-2.86) NC(1.98,-2.86) NC(2.08,-2.86) NC(2.18,-2.86)
  rect 0.07x0.2 smd mask+0.015: NC(-1.22,-2.86) NC(-1.08,2.9) NC(-0.22,-2.86) NC(-0.08,2.9) NC(0.78,-2.86) NC(0.92,2.9) NC(1.78,-2.86)
  rect 0.15x0.45 smd: p(-5,-5) p(-5,5) p(5,-5) p(5,5)
  rect 0.45x0.15 smd: p(-5,-5) p(-5,5) p(5,-5) p(5,5)
Top Layer:
  lines w0.3: -3.5,-3.5 -3.5,3.5 3.5,3.5 3.5,-3.5 -3.5,-3.5
Top Overlay:
  lines w0.1: -2.215,2.48 2.215,2.48 ; -2.5,-2.64 -2.5,2.64 2.5,2.64 2.5,-2.64 -2.5,-2.64
Top Solder:
  rectangle: 3.5,-3.99 8.25,3.5
  rectangle: -8.59,3.35 8.25,8.43
  rectangle: -8.62,-8.44 8.25,-3.58
  rectangle: -8.62,-8.44 -3.52,8.43

## Astropix_Chip_w_bondpads_1mm_distance_125u [mm]
pads (256):
  rect 0.125x0.6 smd mask+0.075: 1(-2.12,-4.77) 2(-2.02,-7.97) 3(-1.92,-6.37) 4(-1.82,-4.77) 5(-1.72,-7.97) 6(-1.68,7.67) 6(-1.62,-6.37) 6(-1.58,6.27) 6(-1.48,4.87) 6(-1.38,7.67) 6(-1.28,6.27) 6(-1.18,4.87) 6(-1.08,7.67) 6(-0.98,6.27) 6(-0.88,4.87) 6(-0.78,7.67) 6(-0.68,6.27) 6(-0.58,4.87) 6(-0.48,7.67) 6(-0.38,6.27) 6(-0.28,4.87) 6(-0.18,7.67) 6(-0.08,6.27) 6(0.02,4.87) 6(0.12,7.67) 6(0.22,6.27) 6(0.32,4.87) 6(0.42,7.67) 6(0.52,6.27) 6(0.62,4.87) 6(0.72,7.67) 6(0.82,6.27) 6(0.92,4.87) 6(1.02,7.67) 6(1.12,6.27) 6(1.22,4.87) 6(1.32,7.67) 6(1.42,6.27) 6(1.52,4.87) 6(1.62,7.67) 6(1.72,6.27) 6(1.82,4.87) 7(-1.52,-4.77) 8(-1.42,-7.97) 9(-1.32,-6.37) 10(-1.22,-4.77) 11(-1.12,-7.97) 12(-1.02,-6.37) 13(-0.92,-4.77) 14(-0.82,-7.97) 15(-0.72,-6.37) 16(-0.62,-4.77) 17(-0.52,-7.97) 18(-0.42,-6.37) 19(-0.32,-4.77) 20(-0.22,-7.97) 21(-0.12,-6.37) 22(-0.02,-4.77) 23(0.08,-7.97) 24(0.18,-6.37) 25(0.28,-4.77) 26(0.38,-7.97) 27(0.48,-6.37) 28(0.58,-4.77) 29(0.68,-7.97) 30(0.78,-6.37) 31(0.88,-4.77) 32(0.98,-7.97) 33(1.08,-6.37) 34(1.18,-4.77) 35(1.28,-7.97) 36(1.38,-6.37) 37(1.48,-4.77) 38(1.58,-7.97) 39(1.68,-6.37) 40(1.78,-4.77) 41(1.88,-7.97) 42(1.98,-6.37) 43(2.84,-4.77) 44(2.74,-6.37)
  rect 0.3x1 all layers, no hole mask+0: 2(-3.51,2.27)
  round 0.6 hole 0.25: 2(3.5,-3.5) 2(3.5,3.5) 201(-1.55,-1.55) 201(-1.55,0) 201(-1.55,1.55) 201(0,-1.55) 201(0,0) 201(0,1.55) 201(1.55,-1.55) 201(1.55,0) 201(1.55,1.55) 202(-3.5,-3.5) 202(-3.5,3.5)
  rect 0.6x0.125 smd mask+0.075: 6(-7.6,-1.88) 6(-7.6,-1.58) 6(-7.6,-1.28) 6(-7.6,-0.98) 6(-7.6,-0.68) 6(-7.6,-0.38) 6(-7.6,-0.08) 6(-7.6,0.22) 6(-7.6,0.52) 6(-7.6,0.82) 6(-7.6,1.12) 6(-7.6,1.42) 6(-6.2,-1.78) 6(-6.2,-1.48) 6(-6.2,-1.18) 6(-6.2,-0.88) 6(-6.2,-0.58) 6(-6.2,-0.28) 6(-6.2,0.02) 6(-6.2,0.32) 6(-6.2,0.62) 6(-6.2,0.92) 6(-6.2,1.22) 6(-6.2,1.52) 6(-4.8,-1.68) 6(-4.8,-1.38) 6(-4.8,-1.08) 6(-4.8,-0.78) 6(-4.8,-0.48) 6(-4.8,-0.18) 6(-4.8,0.12) 6(-4.8,0.42) 6(-4.8,0.72) 6(-4.8,1.02) 6(-4.8,1.32) 6(-4.8,1.62)
  rect 5x5.28 smd: 201(0,0)
  rect 4.63x4.82 smd far side: 201(0,0)
  rect 0.3x0.07 smd mask+0.015: NC(-2.75,-1.88) NC(-2.75,-1.78) NC(-2.75,-1.68) NC(-2.75,-1.58) NC(-2.75,-1.48) NC(-2.75,-1.38) NC(-2.75,-1.28) NC(-2.75,-1.18) NC(-2.75,-1.08) NC(-2.75,-0.88) NC(-2.75,-0.78) NC(-2.75,-0.68) NC(-2.75,-0.58) NC(-2.75,-0.48) NC(-2.75,-0.38) NC(-2.75,-0.28) NC(-2.75,-0.18) NC(-2.75,-0.08) NC(-2.75,0.12) NC(-2.75,0.22) NC(-2.75,0.32) NC(-2.75,0.42) NC(-2.75,0.52) NC(-2.75,0.62) NC(-2.75,0.72) NC(-2.75,0.82) NC(-2.75,0.92) NC(-2.75,1.12) NC(-2.75,1.22) NC(-2.75,1.32) NC(-2.75,1.42) NC(-2.75,1.52) NC(-2.75,1.62)
  rect 0.2x0.07 smd mask+0.015: NC(-2.75,-0.98) NC(-2.75,0.02) NC(-2.75,1.02)
  rect 0.07x0.3 smd mask+0.015: NC(-2.12,-2.86) NC(-2.02,-2.86) NC(-1.92,-2.86) NC(-1.82,-2.86) NC(-1.72,-2.86) NC(-1.68,2.9) NC(-1.62,-2.86) NC(-1.58,2.9) NC(-1.52,-2.86) NC(-1.48,2.9) NC(-1.42,-2.86) NC(-1.38,2.9) NC(-1.32,-2.86) NC(-1.28,2.9) NC(-1.18,2.9) NC(-1.12,-2.86) NC(-1.02,-2.86) NC(-0.98,2.9) NC(-0.92,-2.86) NC(-0.88,2.9) NC(-0.82,-2.86) NC(-0.78,2.9) NC(-0.72,-2.86) NC(-0.68,2.9) NC(-0.62,-2.86) NC(-0.58,2.9) NC(-0.52,-2.86) NC(-0.48,2.9) NC(-0.42,-2.86) NC(-0.38,2.9) NC(-0.32,-2.86) NC(-0.28,2.9) NC(-0.18,2.9) NC(-0.12,-2.86) NC(-0.02,-2.86) NC(0.02,2.9) NC(0.08,-2.86) NC(0.12,2.9) NC(0.18,-2.86) NC(0.22,2.9) NC(0.28,-2.86) NC(0.32,2.9) NC(0.38,-2.86) NC(0.42,2.9) NC(0.48,-2.86) NC(0.52,2.9) NC(0.58,-2.86) NC(0.62,2.9) NC(0.68,-2.86) NC(0.72,2.9) NC(0.82,2.9) NC(0.88,-2.86) NC(0.98,-2.86) NC(1.02,2.9) NC(1.08,-2.86) NC(1.12,2.9) NC(1.18,-2.86) NC(1.22,2.9) NC(1.28,-2.86) NC(1.32,2.9) NC(1.38,-2.86) NC(1.42,2.9) NC(1.48,-2.86) NC(1.52,2.9) NC(1.58,-2.86) NC(1.62,2.9) NC(1.68,-2.86) NC(1.72,2.9) NC(1.82,2.9) NC(1.88,-2.86) NC(1.98,-2.86) NC(2.08,-2.86) NC(2.18,-2.86)
  rect 0.07x0.2 smd mask+0.015: NC(-1.22,-2.86) NC(-1.08,2.9) NC(-0.22,-2.86) NC(-0.08,2.9) NC(0.78,-2.86) NC(0.92,2.9) NC(1.78,-2.86)
  rect 0.45x0.15 smd: p(-5,-5) p(-5,5) p(5,-5) p(5,5)
  rect 0.15x0.45 smd: p(-5,-5) p(-5,5) p(5,-5) p(5,5)
Top Layer:
  lines w0.3: -3.5,-3.5 3.5,-3.5 3.5,3.5 -3.5,3.5 -3.5,-3.5
Top Overlay:
  lines w0.1: -2.215,2.48 2.215,2.48 ; -2.5,-2.64 2.5,-2.64 2.5,2.64 -2.5,2.64 -2.5,-2.64
Top Solder:
  rectangle: -8.62,-8.44 -3.52,8.43
  rectangle: -8.62,-8.44 6.01,-3.58
  rectangle: -8.59,3.35 6.04,8.43
  rectangle: 3.5,-3.99 6.01,3.5

## Astropix_Chip_w_bondpads_1mm_distance_125u - duplicate - duplicate [mm]
pads (256):
  rect 0.125x0.6 smd mask+0.075: 1(-2.12,-4.77) 2(-2.02,-7.57) 3(-1.92,-6.17) 4(-1.82,-4.77) 5(-1.72,-7.57) 6(-1.62,-6.17) 7(-1.52,-4.77) 8(-1.42,-7.57) 9(-1.32,-6.17) 10(-1.22,-4.77) 11(-1.12,-7.57) 12(-1.02,-6.17) 13(-0.92,-4.77) 14(-0.82,-7.57) 15(-0.72,-6.17) 16(-0.62,-4.77) 17(-0.52,-7.57) 18(-0.42,-6.17) 19(-0.32,-4.77) 20(-0.22,-7.57) 21(-0.12,-6.17) 22(-0.02,-4.77) 23(0.08,-7.57) 24(0.18,-6.17) 25(0.28,-4.77) 26(0.38,-7.57) 27(0.48,-6.17) 28(0.58,-4.77) 29(0.68,-7.57) 30(0.78,-6.17) 31(0.88,-4.77) 32(0.98,-7.57) 33(1.08,-6.17) 34(1.18,-4.77) 35(1.28,-7.57) 36(1.38,-6.17) 37(1.48,-4.77) 38(1.58,-7.57) 39(1.68,-6.17) 40(1.78,-4.77) 41(1.88,-7.57) 42(1.98,-6.17) 43(2.84,-4.77) 44(2.74,-6.17) 81(1.82,4.87) 82(1.72,6.27) 83(1.62,7.67) 84(1.52,4.87) 85(1.42,6.27) 86(1.32,7.67) 87(1.22,4.87) 88(1.12,6.27) 89(1.02,7.67) 90(0.92,4.87) 91(0.82,6.27) 92(0.72,7.67) 93(0.62,4.87) 94(0.52,6.27) 95(0.42,7.67) 96(0.32,4.87) 97(0.22,6.27) 98(0.12,7.67) 99(0.02,4.87) 100(-0.08,6.27) 101(-0.18,7.67) 102(-0.28,4.87) 103(-0.38,6.27) 104(-0.48,7.67) 105(-0.58,4.87) 106(-0.68,6.27) 107(-0.78,7.67) 108(-0.88,4.87) 109(-0.98,6.27) 110(-1.08,7.67) 111(-1.18,4.87) 112(-1.28,6.27) 113(-1.38,7.67) 114(-1.48,4.87) 115(-1.58,6.27) 116(-1.68,7.67)
  rect 0.3x1 all layers, no hole mask+0: 2(-3.51,2.27)
  rect 0.6x0.125 smd mask+0.075: 45(-7.6,-1.88) 46(-6.2,-1.78) 47(-4.8,-1.68) 48(-7.6,-1.58) 49(-6.2,-1.48) 50(-4.8,-1.38) 51(-7.6,-1.28) 52(-6.2,-1.18) 53(-4.8,-1.08) 54(-7.6,-0.98) 55(-6.2,-0.88) 56(-4.8,-0.78) 57(-7.6,-0.68) 58(-6.2,-0.58) 59(-4.8,-0.48) 60(-7.6,-0.38) 61(-6.2,-0.28) 62(-4.8,-0.18) 63(-7.6,-0.08) 64(-6.2,0.02) 65(-4.8,0.12) 66(-7.6,0.22) 67(-6.2,0.32) 68(-4.8,0.42) 69(-7.6,0.52) 70(-6.2,0.62) 71(-4.8,0.72) 72(-7.6,0.82) 73(-6.2,0.92) 74(-4.8,1.02) 75(-7.6,1.12) 76(-6.2,1.22) 77(-4.8,1.32) 78(-7.6,1.42) 79(-6.2,1.52) 80(-4.8,1.62)
  round 0.6 hole 0.25: 201(-1.55,-1.55) 201(-1.55,0) 201(-1.55,1.55) 201(0,-1.55) 201(0,0) 201(0,1.55) 201(1.55,-1.55) 201(1.55,0) 201(1.55,1.55) 202(-3.5,-3.5) 202(-3.5,3.5) 202(3.5,-3.5) 202(3.5,3.5)
  rect 5x5.28 smd: 201(0,0)
  rect 4.63x4.82 smd far side: 201(0,0)
  rect 0.3x0.07 smd mask+0.015: NC(-2.75,-1.88) NC(-2.75,-1.78) NC(-2.75,-1.68) NC(-2.75,-1.58) NC(-2.75,-1.48) NC(-2.75,-1.38) NC(-2.75,-1.28) NC(-2.75,-1.18) NC(-2.75,-1.08) NC(-2.75,-0.88) NC(-2.75,-0.78) NC(-2.75,-0.68) NC(-2.75,-0.58) NC(-2.75,-0.48) NC(-2.75,-0.38) NC(-2.75,-0.28) NC(-2.75,-0.18) NC(-2.75,-0.08) NC(-2.75,0.12) NC(-2.75,0.22) NC(-2.75,0.32) NC(-2.75,0.42) NC(-2.75,0.52) NC(-2.75,0.62) NC(-2.75,0.72) NC(-2.75,0.82) NC(-2.75,0.92) NC(-2.75,1.12) NC(-2.75,1.22) NC(-2.75,1.32) NC(-2.75,1.42) NC(-2.75,1.52) NC(-2.75,1.62)
  rect 0.2x0.07 smd mask+0.015: NC(-2.75,-0.98) NC(-2.75,0.02) NC(-2.75,1.02)
  rect 0.07x0.3 smd mask+0.015: NC(-2.12,-2.86) NC(-2.02,-2.86) NC(-1.92,-2.86) NC(-1.82,-2.86) NC(-1.72,-2.86) NC(-1.68,2.9) NC(-1.62,-2.86) NC(-1.58,2.9) NC(-1.52,-2.86) NC(-1.48,2.9) NC(-1.42,-2.86) NC(-1.38,2.9) NC(-1.32,-2.86) NC(-1.28,2.9) NC(-1.18,2.9) NC(-1.12,-2.86) NC(-1.02,-2.86) NC(-0.98,2.9) NC(-0.92,-2.86) NC(-0.88,2.9) NC(-0.82,-2.86) NC(-0.78,2.9) NC(-0.72,-2.86) NC(-0.68,2.9) NC(-0.62,-2.86) NC(-0.58,2.9) NC(-0.52,-2.86) NC(-0.48,2.9) NC(-0.42,-2.86) NC(-0.38,2.9) NC(-0.32,-2.86) NC(-0.28,2.9) NC(-0.18,2.9) NC(-0.12,-2.86) NC(-0.02,-2.86) NC(0.02,2.9) NC(0.08,-2.86) NC(0.12,2.9) NC(0.18,-2.86) NC(0.22,2.9) NC(0.28,-2.86) NC(0.32,2.9) NC(0.38,-2.86) NC(0.42,2.9) NC(0.48,-2.86) NC(0.52,2.9) NC(0.58,-2.86) NC(0.62,2.9) NC(0.68,-2.86) NC(0.72,2.9) NC(0.82,2.9) NC(0.88,-2.86) NC(0.98,-2.86) NC(1.02,2.9) NC(1.08,-2.86) NC(1.12,2.9) NC(1.18,-2.86) NC(1.22,2.9) NC(1.28,-2.86) NC(1.32,2.9) NC(1.38,-2.86) NC(1.42,2.9) NC(1.48,-2.86) NC(1.52,2.9) NC(1.58,-2.86) NC(1.62,2.9) NC(1.68,-2.86) NC(1.72,2.9) NC(1.82,2.9) NC(1.88,-2.86) NC(1.98,-2.86) NC(2.08,-2.86) NC(2.18,-2.86)
  rect 0.07x0.2 smd mask+0.015: NC(-1.22,-2.86) NC(-1.08,2.9) NC(-0.22,-2.86) NC(-0.08,2.9) NC(0.78,-2.86) NC(0.92,2.9) NC(1.78,-2.86)
  rect 0.15x0.45 smd: p(-5,-5) p(-5,5) p(5,-5) p(5,5)
  rect 0.45x0.15 smd: p(-5,-5) p(-5,5) p(5,-5) p(5,5)
Top Layer:
  lines w0.3: -3.5,-3.5 -3.5,3.5 3.5,3.5 3.5,-3.5 -3.5,-3.5
Top Overlay:
  lines w0.1: -2.215,2.48 2.215,2.48 ; -2.5,-2.64 -2.5,2.64 2.5,2.64 2.5,-2.64 -2.5,-2.64
Top Solder:
  rectangle: 3.5,-3.99 8.25,3.5
  rectangle: -8.59,3.35 8.25,8.43
  rectangle: -8.62,-8.44 8.25,-3.58
  rectangle: -8.62,-8.44 -3.52,8.43

## Astropix_Chip_w_bondpads_1mm_distance_125u _final [mm]
pads (140):
  rect 0.125x0.6 smd mask+0.075: 1(-2.12,-4.77) 2(-2.02,-7.57) 3(-1.92,-6.17) 4(-1.82,-4.77) 5(-1.72,-7.57) 6(-1.62,-6.17) 7(-1.52,-4.77) 8(-1.42,-7.57) 9(-1.32,-6.17) 10(-1.22,-4.77) 11(-1.12,-7.57) 12(-1.02,-6.17) 13(-0.92,-4.77) 14(-0.82,-7.57) 15(-0.72,-6.17) 16(-0.62,-4.77) 17(-0.52,-7.57) 18(-0.42,-6.17) 19(-0.32,-4.77) 20(-0.22,-7.57) 21(-0.12,-6.17) 22(-0.02,-4.77) 23(0.08,-7.57) 24(0.18,-6.17) 25(0.28,-4.77) 26(0.38,-7.57) 27(0.48,-6.17) 28(0.58,-4.77) 29(0.68,-7.57) 30(0.78,-6.17) 31(0.88,-4.77) 32(0.98,-7.57) 33(1.08,-6.17) 34(1.18,-4.77) 35(1.28,-7.57) 36(1.38,-6.17) 37(1.48,-4.77) 38(1.58,-7.57) 39(1.68,-6.17) 40(1.78,-4.77) 41(1.88,-7.57) 42(1.98,-6.17) 43(2.84,-4.77) 44(2.74,-6.17) 81(1.82,4.87) 82(1.72,6.27) 83(1.62,7.67) 84(1.52,4.87) 85(1.42,6.27) 86(1.32,7.67) 87(1.22,4.87) 88(1.12,6.27) 89(1.02,7.67) 90(0.92,4.87) 91(0.82,6.27) 92(0.72,7.67) 93(0.62,4.87) 94(0.52,6.27) 95(0.42,7.67) 96(0.32,4.87) 97(0.22,6.27) 98(0.12,7.67) 99(0.02,4.87) 100(-0.08,6.27) 101(-0.18,7.67) 102(-0.28,4.87) 103(-0.38,6.27) 104(-0.48,7.67) 105(-0.58,4.87) 106(-0.68,6.27) 107(-0.78,7.67) 108(-0.88,4.87) 109(-0.98,6.27) 110(-1.08,7.67) 111(-1.18,4.87) 112(-1.28,6.27) 113(-1.38,7.67) 114(-1.48,4.87) 115(-1.58,6.27) 116(-1.68,7.67)
  rect 0.3x1 all layers, no hole mask+0: 2(-3.51,2.27)
  rect 0.6x0.125 smd mask+0.075: 45(-7.6,-1.84) 46(-6.2,-1.74) 47(-4.8,-1.64) 48(-7.6,-1.54) 49(-6.2,-1.44) 50(-4.8,-1.34) 51(-7.6,-1.24) 52(-6.2,-1.14) 53(-4.8,-1.04) 54(-7.6,-0.94) 55(-6.2,-0.84) 56(-4.8,-0.74) 57(-7.6,-0.64) 58(-6.2,-0.54) 59(-4.8,-0.44) 60(-7.6,-0.34) 61(-6.2,-0.24) 62(-4.8,-0.14) 63(-7.6,-0.04) 64(-6.2,0.06) 65(-4.8,0.16) 66(-7.6,0.26) 67(-6.2,0.36) 68(-4.8,0.46) 69(-7.6,0.56) 70(-6.2,0.66) 71(-4.8,0.76) 72(-7.6,0.86) 73(-6.2,0.96) 74(-4.8,1.06) 75(-7.6,1.16) 76(-6.2,1.26) 77(-4.8,1.36) 78(-7.6,1.46) 79(-6.2,1.56) 80(-4.8,1.66)
  round 0.6 hole 0.25: 201(-1.55,-1.55) 201(-1.55,0) 201(-1.55,1.55) 201(0,-1.55) 201(0,0) 201(0,1.55) 201(1.55,-1.55) 201(1.55,0) 201(1.55,1.55) 202(-3.5,-3.5) 202(-3.5,3.5) 202(3.5,-3.5) 202(3.5,3.5)
  rect 5x5.28 smd: 201(0,0)
  rect 4.63x4.82 smd far side: 201(0,0)
  rect 0.15x0.45 smd: p(-5,-5) p(-5,5) p(5,-5) p(5,5)
  rect 0.45x0.15 smd: p(-5,-5) p(-5,5) p(5,-5) p(5,5)
Top Layer:
  lines w0.3: -3.5,-3.5 -3.5,3.5 3.5,3.5 3.5,-3.5 -3.5,-3.5
Top Overlay:
  lines w0.1: -2.215,2.48 2.215,2.48 ; -2.5,-2.64 -2.5,2.64 2.5,2.64 2.5,-2.64 -2.5,-2.64
Top Solder:
  rectangle: 3.5,-3.99 8.25,3.5
  rectangle: -8.59,3.35 8.25,8.43
  rectangle: -8.62,-8.44 8.25,-3.58
  rectangle: -8.62,-8.44 -3.52,8.43

## Astropix_Chip_w_bondpads_1mm_distance_125u_bondplan [mm]
pads (255):
  rect 0.125x0.6 smd mask+0.075: 1(-2.12,-4.77) 2(-2.02,-7.57) 3(-1.92,-6.17) 4(-1.82,-4.77) 5(-1.72,-7.57) 6(-1.62,-6.17) 7(-1.52,-4.77) 8(-1.42,-7.57) 9(-1.32,-6.17) 10(-1.22,-4.77) 11(-1.12,-7.57) 12(-1.02,-6.17) 13(-0.92,-4.77) 14(-0.82,-7.57) 15(-0.72,-6.17) 16(-0.62,-4.77) 17(-0.52,-7.57) 18(-0.42,-6.17) 19(-0.32,-4.77) 20(-0.22,-7.57) 21(-0.12,-6.17) 22(-0.02,-4.77) 23(0.08,-7.57) 24(0.18,-6.17) 25(0.28,-4.77) 26(0.38,-7.57) 27(0.48,-6.17) 28(0.58,-4.77) 29(0.68,-7.57) 30(0.78,-6.17) 31(0.88,-4.77) 32(0.98,-7.57) 33(1.08,-6.17) 34(1.18,-4.77) 35(1.28,-7.57) 36(1.38,-6.17) 37(1.48,-4.77) 38(1.58,-7.57) 39(1.68,-6.17) 40(1.78,-4.77) 41(1.88,-7.57) 42(1.98,-6.17) 43(2.84,-4.77) 44(2.74,-6.17) 81(1.82,4.87) 82(1.72,6.27) 83(1.62,7.67) 84(1.52,4.87) 85(1.42,6.27) 86(1.32,7.67) 87(1.22,4.87) 88(1.12,6.27) 89(1.02,7.67) 90(0.92,4.87) 91(0.82,6.27) 92(0.72,7.67) 93(0.62,4.87) 94(0.52,6.27) 95(0.42,7.67) 96(0.32,4.87) 97(0.22,6.27) 98(0.12,7.67) 99(0.02,4.87) 100(-0.08,6.27) 101(-0.18,7.67) 102(-0.28,4.87) 103(-0.38,6.27) 104(-0.48,7.67) 105(-0.58,4.87) 106(-0.68,6.27) 107(-0.78,7.67) 108(-0.88,4.87) 109(-0.98,6.27) 110(-1.08,7.67) 111(-1.18,4.87) 112(-1.28,6.27) 113(-1.38,7.67) 114(-1.48,4.87) 115(-1.58,6.27) 116(-1.68,7.67)
  rect 0.3x1 all layers, no hole mask+0: 2(-3.51,2.27)
  rect 0.6x0.125 smd mask+0.075: 45(-7.59,-1.84) 46(-6.19,-1.74) 47(-4.79,-1.64) 48(-7.59,-1.54) 49(-6.19,-1.44) 50(-4.79,-1.34) 51(-7.59,-1.24) 52(-6.19,-1.14) 53(-4.79,-1.04) 54(-7.59,-0.94) 55(-6.19,-0.84) 56(-4.79,-0.74) 57(-7.59,-0.64) 58(-6.19,-0.54) 59(-4.79,-0.44) 60(-7.59,-0.34) 61(-6.19,-0.24) 62(-4.79,-0.14) 63(-7.59,-0.04) 64(-6.19,0.06) 65(-4.79,0.16) 66(-7.59,0.26) 67(-6.19,0.36) 68(-4.79,0.46) 69(-7.59,0.56) 70(-6.19,0.66) 71(-4.79,0.76) 72(-7.59,0.86) 73(-6.19,0.96) 74(-4.79,1.06) 75(-7.59,1.16) 76(-6.19,1.26) 77(-4.79,1.36) 78(-7.59,1.46) 79(-6.19,1.56) 80(-4.79,1.66)
  round 0.6 hole 0.25: 201(-1.55,-1.55) 201(-1.55,0) 201(-1.55,1.55) 201(0,-1.55) 201(0,0) 201(0,1.55) 201(1.55,-1.55) 201(1.55,0) 201(1.55,1.55) 202(-3.5,-3.5) 202(-3.5,3.5) 202(3.5,-3.5) 202(3.5,3.5)
  rect 4.63x4.82 smd far side: 201(0,0)
  rect 0.07x0.14 smd mask+0.015: NC(-2.12,-2.53) NC(-2.02,-2.53) NC(-1.92,-2.53) NC(-1.82,-2.53) NC(-1.72,-2.53) NC(-1.68,1.94) NC(-1.62,-2.53) NC(-1.58,1.94) NC(-1.52,-2.53) NC(-1.48,1.94) NC(-1.42,-2.53) NC(-1.38,1.94) NC(-1.32,-2.53) NC(-1.28,1.94) NC(-1.22,-2.53) NC(-1.18,1.94) NC(-1.12,-2.53) NC(-1.08,1.94) NC(-1.02,-2.53) NC(-0.98,1.94) NC(-0.92,-2.53) NC(-0.88,1.94) NC(-0.82,-2.53) NC(-0.78,1.94) NC(-0.72,-2.53) NC(-0.68,1.94) NC(-0.62,-2.53) NC(-0.58,1.94) NC(-0.52,-2.53) NC(-0.48,1.94) NC(-0.42,-2.53) NC(-0.38,1.94) NC(-0.32,-2.53) NC(-0.28,1.94) NC(-0.22,-2.53) NC(-0.18,1.94) NC(-0.12,-2.53) NC(-0.08,1.94) NC(-0.02,-2.53) NC(0.02,1.94) NC(0.08,-2.53) NC(0.12,1.94) NC(0.18,-2.53) NC(0.22,1.94) NC(0.28,-2.53) NC(0.32,1.94) NC(0.38,-2.53) NC(0.42,1.94) NC(0.48,-2.53) NC(0.52,1.94) NC(0.58,-2.53) NC(0.62,1.94) NC(0.68,-2.53) NC(0.72,1.94) NC(0.78,-2.53) NC(0.82,1.94) NC(0.88,-2.53) NC(0.92,1.94) NC(0.98,-2.53) NC(1.02,1.94) NC(1.08,-2.53) NC(1.12,1.94) NC(1.18,-2.53) NC(1.22,1.94) NC(1.28,-2.53) NC(1.32,1.94) NC(1.38,-2.53) NC(1.42,1.94) NC(1.48,-2.53) NC(1.52,1.94) NC(1.58,-2.53) NC(1.62,1.94) NC(1.68,-2.53) NC(1.72,1.94) NC(1.78,-2.53) NC(1.82,1.94) NC(1.88,-2.53) NC(1.98,-2.53) NC(2.08,-2.53) NC(2.18,-2.53)
  rect 0.14x0.07 smd mask+0.015: NC(-2.11,-1.84) NC(-2.11,-1.74) NC(-2.11,-1.64) NC(-2.11,-1.54) NC(-2.11,-1.44) NC(-2.11,-1.34) NC(-2.11,-1.24) NC(-2.11,-1.14) NC(-2.11,-1.04) NC(-2.11,-0.94) NC(-2.11,-0.84) NC(-2.11,-0.74) NC(-2.11,-0.64) NC(-2.11,-0.54) NC(-2.11,-0.44) NC(-2.11,-0.34) NC(-2.11,-0.24) NC(-2.11,-0.14) NC(-2.11,-0.04) NC(-2.11,0.06) NC(-2.11,0.16) NC(-2.11,0.26) NC(-2.11,0.36) NC(-2.11,0.46) NC(-2.11,0.56) NC(-2.11,0.66) NC(-2.11,0.76) NC(-2.11,0.86) NC(-2.11,0.96) NC(-2.11,1.06) NC(-2.11,1.16) NC(-2.11,1.26) NC(-2.11,1.36) NC(-2.11,1.46) NC(-2.11,1.56) NC(-2.11,1.66)
  rect 0.45x0.15 smd: p(-5,-5) p(-5,5) p(5,-5) p(5,5)
  rect 0.15x0.45 smd: p(-5,-5) p(-5,5) p(5,-5) p(5,5)
Top Layer:
  lines w0.3: -3.5,-3.5 3.5,-3.5 3.5,3.5 -3.5,3.5 -3.5,-3.5
Top Overlay:
  lines w0.05: -7.59,-1.84 -2.11,-1.84 ; -7.59,-1.54 -2.11,-1.54 ; -7.59,-1.24 -2.11,-1.24 ; -7.59,-0.94 -2.11,-0.94 ; -7.59,-0.64 -2.11,-0.64 ; -7.59,-0.34 -2.11,-0.34 ; -7.59,-0.04 -2.11,-0.04 ; -7.59,0.26 -2.11,0.26 ; -7.59,0.56 -2.11,0.56 ; -7.59,0.86 -2.11,0.86 ; -7.59,1.16 -2.11,1.16 ; -7.59,1.46 -2.11,1.46 ; -6.19,-1.74 -2.11,-1.74 ; -6.19,-1.44 -2.11,-1.44 ; -6.19,-1.14 -2.11,-1.14 ; -6.19,-0.84 -2.11,-0.84 ; -6.19,-0.54 -2.11,-0.54 ; -6.19,-0.24 -2.11,-0.24 ; -6.19,0.06 -2.11,0.06 ; -6.19,0.36 -2.11,0.36 ; -6.19,0.66 -2.11,0.66 ; -6.19,0.96 -2.11,0.96 ; -6.19,1.26 -2.11,1.26 ; -6.19,1.56 -2.11,1.56 ; -4.79,-1.64 -2.11,-1.64 ; -4.79,-1.34 -2.11,-1.34 ; -4.79,-1.04 -2.11,-1.04 ; -4.79,-0.74 -2.11,-0.74 ; -4.79,-0.44 -2.11,-0.44 ; -4.79,-0.14 -2.11,-0.14 ; -4.79,0.16 -2.11,0.16 ; -4.79,0.46 -2.11,0.46 ; -4.79,0.76 -2.11,0.76 ; -4.79,1.06 -2.11,1.06 ; -4.79,1.36 -2.11,1.36 ; -4.79,1.66 -2.11,1.66 ; -2.12,-4.77 -2.12,-2.53 ; -2.02,-7.57 -2.02,-2.53 ; -1.92,-6.17 -1.92,-2.53 ; -1.82,-4.77 -1.82,-2.53 ; -1.72,-7.57 -1.72,-2.53 ; -1.68,1.94 -1.68,7.67 ; -1.62,-6.17 -1.62,-2.53 ; -1.58,1.94 -1.58,6.27 ; -1.52,-4.77 -1.52,-2.53 ; -1.48,1.94 -1.48,4.87 ; -1.42,-7.57 -1.42,-2.53 ; -1.38,1.94 -1.38,7.67 ; -1.32,-6.17 -1.32,-2.53 ; -1.28,1.94 -1.28,6.27 ; -1.22,-4.77 -1.22,-2.53 ; -1.18,1.94 -1.18,4.87 ; -1.12,-7.57 -1.12,-2.53 ; -1.08,1.94 -1.08,7.67 ; -1.02,-6.17 -1.02,-2.53 ; -0.98,1.94 -0.98,6.27 ; -0.92,-4.77 -0.92,-2.53 ; -0.88,1.94 -0.88,4.87 ; -0.82,-7.57 -0.82,-2.53 ; -0.78,1.94 -0.78,7.67 ; -0.72,-6.17 -0.72,-2.53 ; -0.68,1.94 -0.68,6.27 ; -0.62,-4.77 -0.62,-2.53 ; -0.58,1.94 -0.58,4.87 ; -0.52,-7.57 -0.52,-2.53 ; -0.48,1.94 -0.48,7.67 ; -0.42,-6.17 -0.42,-2.53 ; -0.38,1.94 -0.38,6.27 ; -0.32,-4.77 -0.32,-2.53 ; -0.28,1.94 -0.28,4.87 ; -0.22,-7.57 -0.22,-2.53 ; -0.18,1.94 -0.18,7.67 ; -0.12,-6.17 -0.12,-2.53 ; -0.08,1.94 -0.08,6.27 ; -0.02,-4.77 -0.02,-2.53 ; 0.02,1.94 0.02,4.87 ; 0.08,-7.57 0.08,-2.53 ; 0.12,1.94 0.12,7.67 ; 0.18,-6.17 0.18,-2.53 ; 0.22,1.94 0.22,6.27 ; 0.28,-4.77 0.28,-2.53 ; 0.32,1.94 0.32,4.87 ; 0.38,-7.57 0.38,-2.53 ; 0.42,1.94 0.42,7.67 ; 0.48,-6.17 0.48,-2.53 ; 0.52,1.94 0.52,6.27 ; 0.58,-4.77 0.58,-2.53 ; 0.62,1.94 0.62,4.87 ; 0.68,-7.57 0.68,-2.53 ; 0.72,1.94 0.72,7.67 ; 0.78,-6.17 0.78,-2.53 ; 0.82,1.94 0.82,6.27 ; 0.88,-4.77 0.88,-2.53 ; 0.92,1.94 0.92,4.87 ; 0.98,-7.57 0.98,-2.53 ; 1.02,1.94 1.02,7.67 ; 1.08,-6.17 1.08,-2.53 ; 1.12,1.94 1.12,6.27 ; 1.18,-4.77 1.18,-2.53 ; 1.22,1.94 1.22,4.87 ; 1.28,-7.57 1.28,-2.53 ; 1.32,1.94 1.32,7.67 ; 1.38,-6.17 1.38,-2.53 ; 1.42,1.94 1.42,6.27 ; 1.48,-4.77 1.48,-2.53 ; 1.52,1.94 1.52,4.87 ; 1.58,-7.57 1.58,-2.53 ; 1.62,1.94 1.62,7.67 ; 1.68,-6.17 1.68,-2.53 ; 1.72,1.94 1.72,6.27 ; 1.78,-4.77 1.78,-2.53 ; 1.82,1.94 1.82,4.87 ; 1.88,-7.57 1.88,-2.53 ; 1.98,-6.17 1.98,-2.53 ; 2.08,-2.53 2.74,-6.17 ; 2.18,-2.53 2.84,-4.77 ; -2.11,1.36 -2.11,1.36 ; -1.92,-2.53 -1.92,-2.53
  lines w0.1: -2.215,2.48 2.215,2.48 ; -2.5,-2.64 2.5,-2.64 2.5,2.64 -2.5,2.64 -2.5,-2.64
Top Solder:
  rectangle: -8.62,-8.44 -3.52,8.43
  rectangle: -8.62,-8.44 8.25,-3.58
  rectangle: -8.59,3.35 8.25,8.43
  rectangle: 3.5,-3.99 8.25,3.5